# Altium footprint library QFN50P500X500X100-32N.PcbLib: 1 footprints
Each footprint in its own frame and in the unit in brackets; x right, y up, seen from the top. Pads: shape width x height; smd on the part's side, far side on the other; paste and mask are expansions set on the pad; w line width, h text height; cw(c..) or ccw(c..) is an arc to the next point about the centre after c.
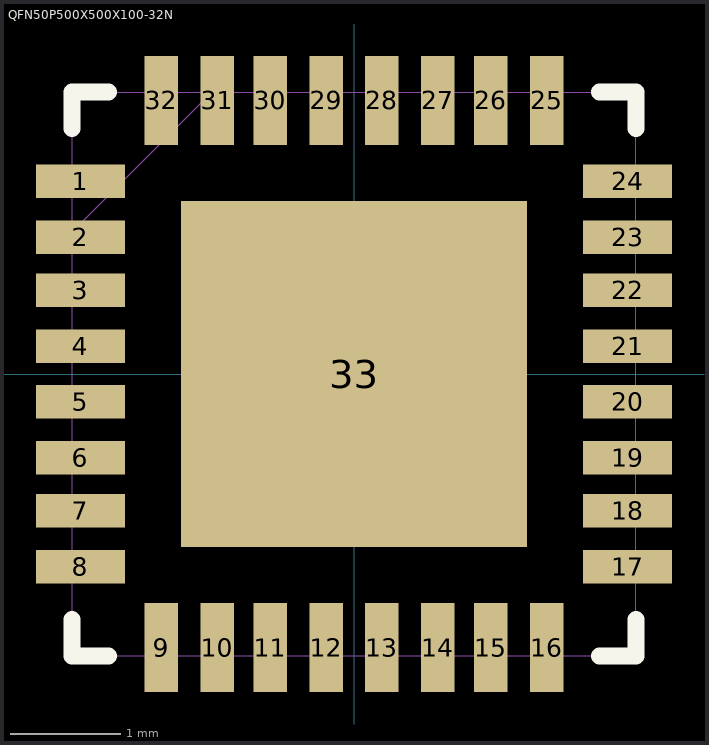
[diagram p0: the footprint, top view; thin cyan lines are the x and y axes]

## QFN50P500X500X100-32N [mil]
pads (33):
  rect 32x12 smd: 1(-98,69) 2(-98,49) 3(-98,30) 4(-98,10) 5(-98,-10) 6(-98,-30) 7(-98,-49) 8(-98,-69) 17(98,-69) 18(98,-49) 19(98,-30) 20(98,-10) 21(98,10) 22(98,30) 23(98,49) 24(98,69)
  rect 12x32 smd: 9(-69,-98) 10(-49,-98) 11(-30,-98) 12(-10,-98) 13(10,-98) 14(30,-98) 15(49,-98) 16(69,-98) 25(69,98) 26(49,98) 27(30,98) 28(10,98) 29(-10,98) 30(-30,98) 31(-49,98) 32(-69,98)
  rect 124x124 smd: 33(0,0)
Top Overlay:
  lines w6: -101,-88 -101,-101 -88,-101 ; -101,88 -101,101 -88,101 ; 88,-101 101,-101 101,-88 ; 88,101 101,101 101,88
Mechanical 1:
  lines w0: -101,-75 -101,-63 ; -101,-55 -101,-43 ; -101,-35 -101,-24 ; -101,-16 -101,-4 ; -101,4 -101,16 ; -101,24 -101,35 ; -101,43 -101,55 ; -101,51 -51,101 ; -101,63 -101,75 ; -75,-101 -63,-101 ; -75,101 -63,101 ; -55,-101 -43,-101 ; -55,101 -43,101 ; -35,-101 -24,-101 ; -35,101 -24,101 ; -16,-101 -4,-101 ; -16,101 -4,101 ; 4,-101 16,-101 ; 4,101 16,101 ; 24,-101 35,-101 ; 24,101 35,101 ; 43,-101 55,-101 ; 43,101 55,101 ; 63,-101 75,-101 ; 63,101 75,101 ; 101,-75 101,-63 ; 101,-55 101,-43 ; 101,-35 101,-24 ; 101,-16 101,-4 ; 101,4 101,16 ; 101,24 101,35 ; 101,43 101,55 ; 101,63 101,75 ; -101,-101 101,-101 101,101 -101,101 -101,-101